# Altium schematic symbol library Symbols.SchLib: 177 symbols
Pins are listed as number, name and electrical type; pins without a type are passive.

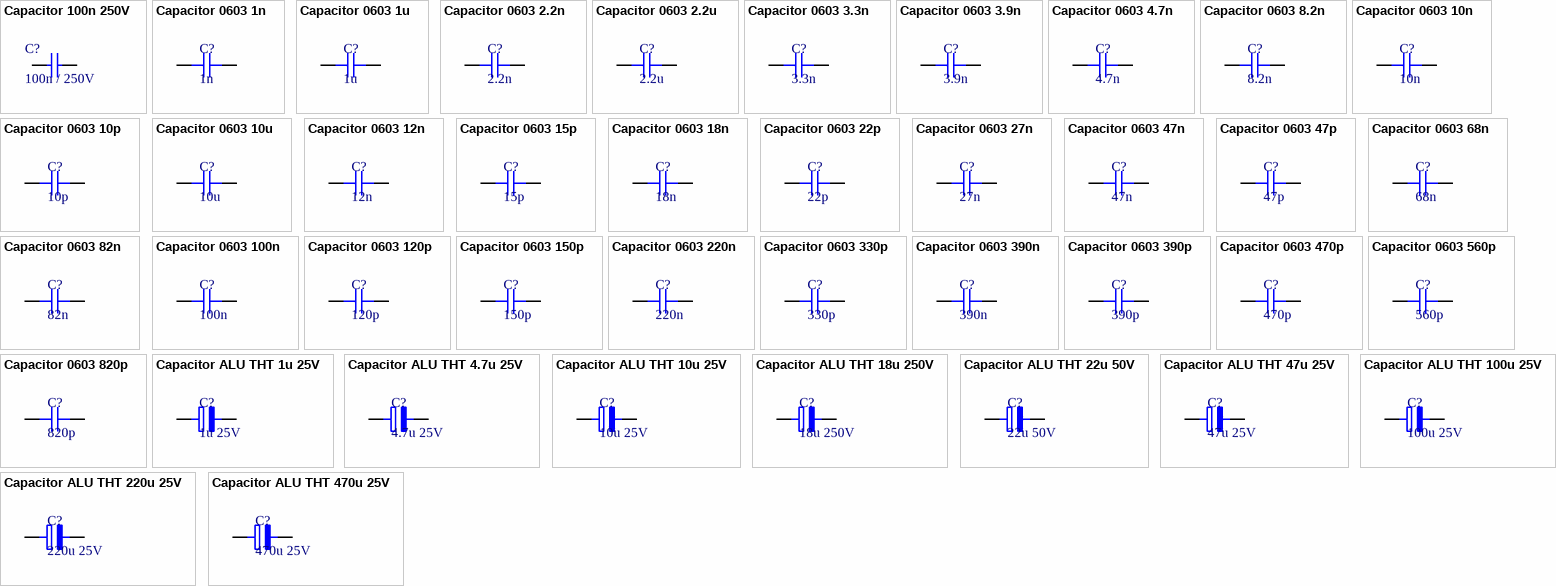
[diagram p0: symbols Capacitor 100n 250V to Capacitor ALU THT 470u 25V]

## Capacitor 100n 250V
designator C?, comment 100n / 250V
footprint Capacitor 1206
pins: 1, 2

## Capacitor 0603 1n
designator C?, comment 1n
footprint Capacitor 0603
pins: 1, 2

## Capacitor 0603 1u
designator C?, comment 1u
footprint Capacitor 0603
pins: 1, 2

## Capacitor 0603 2.2n
designator C?, comment 2.2n
footprint Capacitor 0603
pins: 1, 2

## Capacitor 0603 2.2u
designator C?, comment 2.2u
footprint Capacitor 0603
pins: 1, 2

## Capacitor 0603 3.3n
designator C?, comment 3.3n
footprint Capacitor 0603
pins: 1, 2

## Capacitor 0603 3.9n
designator C?, comment 3.9n
footprint Capacitor 0603
pins: 1, 2

## Capacitor 0603 4.7n
designator C?, comment 4.7n
footprint Capacitor 0603
pins: 1, 2

## Capacitor 0603 8.2n
designator C?, comment 8.2n
footprint Capacitor 0603
pins: 1, 2

## Capacitor 0603 10n
designator C?, comment 10n
footprint Capacitor 0603
pins: 1, 2

## Capacitor 0603 10p
designator C?, comment 10p
footprint Capacitor 0603
pins: 1, 2

## Capacitor 0603 10u
designator C?, comment 10u
footprint Capacitor 0603
pins: 1, 2

## Capacitor 0603 12n
designator C?, comment 12n
footprint Capacitor 0603
pins: 1, 2

## Capacitor 0603 15p
designator C?, comment 15p
footprint Capacitor 0603
pins: 1, 2

## Capacitor 0603 18n
designator C?, comment 18n
footprint Capacitor 0603
pins: 1, 2

## Capacitor 0603 22p
designator C?, comment 22p
footprint Capacitor 0603
pins: 1, 2

## Capacitor 0603 27n
designator C?, comment 27n
footprint Capacitor 0603
pins: 1, 2

## Capacitor 0603 47n
designator C?, comment 47n
footprint Capacitor 0603
pins: 1, 2

## Capacitor 0603 47p
designator C?, comment 47p
footprint Capacitor 0603
pins: 1, 2

## Capacitor 0603 68n
designator C?, comment 68n
footprint Capacitor 0603
pins: 1, 2

## Capacitor 0603 82n
designator C?, comment 82n
footprint Capacitor 0603
pins: 1, 2

## Capacitor 0603 100n
designator C?, comment 100n
footprint Capacitor 0603
pins: 1, 2

## Capacitor 0603 120p
designator C?, comment 120p
footprint Capacitor 0603
pins: 1, 2

## Capacitor 0603 150p
designator C?, comment 150p
footprint Capacitor 0603
pins: 1, 2

## Capacitor 0603 220n
designator C?, comment 220n
footprint Capacitor 0603
pins: 1, 2

## Capacitor 0603 330p
designator C?, comment 330p
footprint Capacitor 0603
pins: 1, 2

## Capacitor 0603 390n
designator C?, comment 390n
footprint Capacitor 0603
pins: 1, 2

## Capacitor 0603 390p
designator C?, comment 390p
footprint Capacitor 0603
pins: 1, 2

## Capacitor 0603 470p
designator C?, comment 470p
footprint Capacitor 0603
pins: 1, 2

## Capacitor 0603 560p
designator C?, comment 560p
footprint Capacitor 0603
pins: 1, 2

## Capacitor 0603 820p
designator C?, comment 820p
footprint Capacitor 0603
pins: 1, 2

## Capacitor ALU THT 1u 25V
designator C?, comment 1u 25V
footprint CAPACITOR THT 5X11MM
pins: 1, 2

## Capacitor ALU THT 4.7u 25V
designator C?, comment 4.7u 25V
footprint CAPACITOR THT 5X11MM
pins: 1, 2

## Capacitor ALU THT 10u 25V
designator C?, comment 10u 25V
footprint CAPACITOR THT 5X11MM
pins: 1, 2

## Capacitor ALU THT 18u 250V
designator C?, comment 18u 250V
footprint CAPACITOR 10x16MM LS=5MM HORIZONTAL
pins: 1, 2

## Capacitor ALU THT 22u 50V
designator C?, comment 22u 50V
footprint CAPACITOR THT 5X11MM
pins: 1, 2

## Capacitor ALU THT 47u 25V
designator C?, comment 47u 25V
footprint CAPACITOR THT 5X11MM
pins: 1, 2

## Capacitor ALU THT 100u 25V
designator C?, comment 100u 25V
footprint CAPACITOR THT 6.3X11MM
pins: 1, 2

## Capacitor ALU THT 220u 25V
designator C?, comment 220u 25V
footprint CAPACITOR THT 6.3X11MM
pins: 1, 2

## Capacitor ALU THT 470u 25V
designator C?, comment 470u 25V
footprint CAPACITOR THT 8X14MM
pins: 1, 2

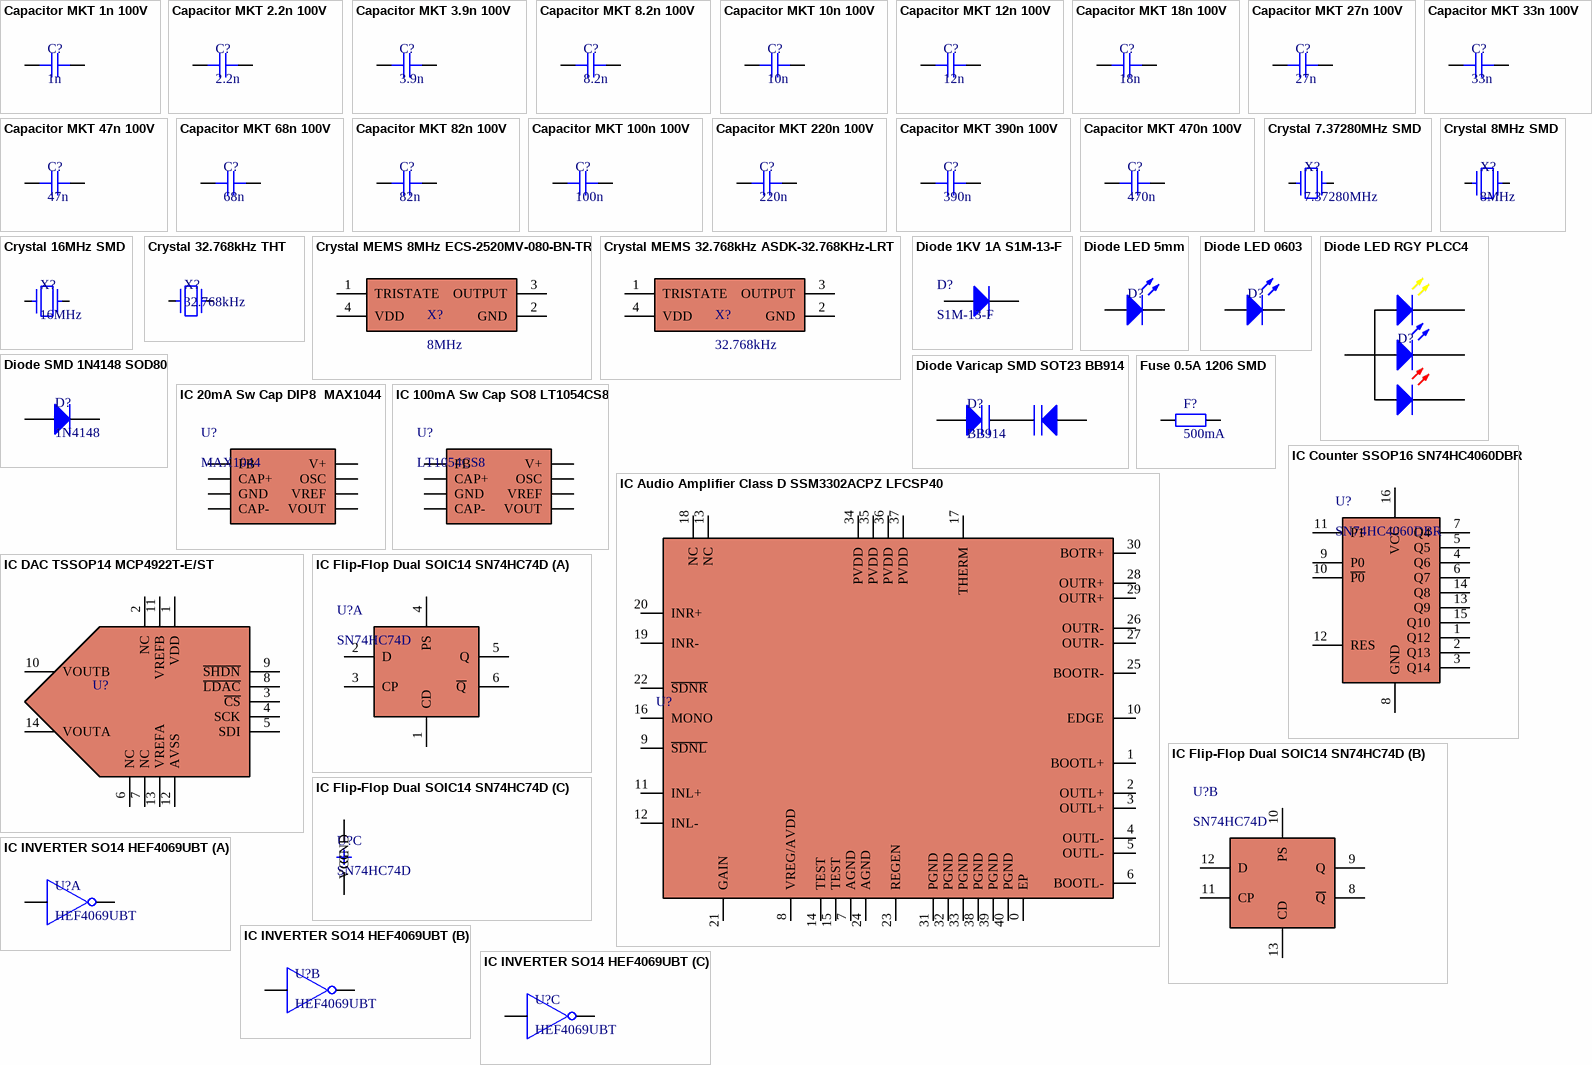
[diagram p1: symbols Capacitor MKT 1n 100V to IC INVERTER SO14 HEF4069UBT]

## Capacitor MKT 1n 100V
designator C?, comment 1n
footprint CAPACITOR 7.2X2.5MM LS=5MM MKT
pins: 1, 2

## Capacitor MKT 2.2n 100V
designator C?, comment 2.2n
footprint CAPACITOR 7.2X2.5MM LS=5MM MKT
pins: 1, 2

## Capacitor MKT 3.9n 100V
designator C?, comment 3.9n
footprint CAPACITOR 7.2X2.5MM LS=5MM MKT
pins: 1, 2

## Capacitor MKT 8.2n 100V
designator C?, comment 8.2n
footprint CAPACITOR 7.2X2.5MM LS=5MM MKT
pins: 1, 2

## Capacitor MKT 10n 100V
designator C?, comment 10n
footprint CAPACITOR 7.2X2.5MM LS=5MM MKT
pins: 1, 2

## Capacitor MKT 12n 100V
designator C?, comment 12n
footprint CAPACITOR 7.2X2.5MM LS=5MM MKT
pins: 1, 2

## Capacitor MKT 18n 100V
designator C?, comment 18n
footprint CAPACITOR 7.2X2.5MM LS=5MM MKT
pins: 1, 2

## Capacitor MKT 27n 100V
designator C?, comment 27n
footprint CAPACITOR 7.2X2.5MM LS=5MM MKT
pins: 1, 2

## Capacitor MKT 33n 100V
designator C?, comment 33n
footprint CAPACITOR 7.2X2.5MM LS=5MM MKT
pins: 1, 2

## Capacitor MKT 47n 100V
designator C?, comment 47n
footprint CAPACITOR 7.2X2.5MM LS=5MM MKT
pins: 1, 2

## Capacitor MKT 68n 100V
designator C?, comment 68n
footprint CAPACITOR 7.2X2.5MM LS=5MM MKT
pins: 1, 2

## Capacitor MKT 82n 100V
designator C?, comment 82n
footprint CAPACITOR 7.2X2.5MM LS=5MM MKT
pins: 1, 2

## Capacitor MKT 100n 100V
designator C?, comment 100n
footprint CAPACITOR 7.2X2.5MM LS=5MM MKT
pins: 1, 2

## Capacitor MKT 220n 100V
designator C?, comment 220n
footprint CAPACITOR 7.2X4.4MM LS=5MM MKT
pins: 1, 2

## Capacitor MKT 390n 100V
designator C?, comment 390n
footprint CAPACITOR 7.2X4.4MM LS=5MM MKT
pins: 1, 2

## Capacitor MKT 470n 100V
designator C?, comment 470n
footprint CAPACITOR 7.2X4.4MM LS=5MM MKT
pins: 1, 2

## Crystal 7.37280MHz SMD
designator X?, comment 7.37280MHz
footprint CRYSTAL 8MHZ SMD
pins: 1, 2

## Crystal 8MHz SMD
designator X?, comment 8MHz
footprint CRYSTAL 8MHZ SMD
pins: 1, 2

## Crystal 16MHz SMD
designator X?, comment 16MHz
footprint CRYSTAL 8MHZ SMD
pins: 1, 2

## Crystal 32.768kHz THT
designator X?, comment 32.768kHz
footprint CRYSTAL 32.768kHz THT
pins: 1, 2

## Crystal MEMS 8MHz ECS-2520MV-080-BN-TR
designator X?, comment 8MHz
footprint CRYSTAL MEMS 2.5x2mm
pins: 1 TRISTATE, 2 GND, 3 OUTPUT, 4 VDD

## Crystal MEMS 32.768kHz ASDK-32.768KHz-LRT
designator X?, comment 32.768kHz
footprint CRYSTAL MEMS 2.5x2mm
pins: 1 TRISTATE, 2 GND, 3 OUTPUT, 4 VDD

## Diode 1KV 1A S1M-13-F
designator D?, comment S1M-13-F
footprint DO-214
pins: 1, 2

## Diode LED 5mm
designator D?
footprint LED 5MM THT
pins: 1, 2

## Diode LED 0603
designator D?
footprint LED 0603 (Footprint not found)
pins: 1, 2

## Diode LED RGY PLCC4
designator D?, comment CLMVC-FKA-CLBDGL7LBB79353  (value not drawn)
footprint PLCC4
pins: 1, 2, 3, 4

## Diode SMD 1N4148 SOD80
designator D?, comment 1N4148
footprint SOD80
pins: 1, 2

## Diode Varicap SMD SOT23 BB914
designator D?, comment BB914
footprint SOT23-3
pins: 1, 2, 3

## Fuse 0.5A 1206 SMD
designator F?, comment 500mA
footprint Fuse SMD 1206
pins: 1, 2

## IC 20mA Sw Cap DIP8  MAX1044
designator U?, comment MAX1044
footprint DIP8
pins: 1 FB, 2 CAP+, 3 GND, 4 CAP-, 5 VOUT, 6 VREF, 7 OSC, 8 V+

## IC 100mA Sw Cap SO8 LT1054CS8
designator U?, comment LT1054CS8
footprint SO8
pins: 1 FB, 2 CAP+, 3 GND, 4 CAP-, 5 VOUT, 6 VREF, 7 OSC, 8 V+

## IC Audio Amplifier Class D SSM3302ACPZ LFCSP40
designator U?, comment SSM3302ACPZ  (value not drawn)
footprint LFCSP40
pins: 0 EP, 1 BOOTL+, 2 OUTL+, 3 OUTL+, 4 OUTL-, 5 OUTL-, 6 BOOTL-, 7 AGND, 8 VREG/AVDD, 9 ~{SDNL}, 10 EDGE, 11 INL+, 12 INL-, 13 NC, 14 TEST, 15 TEST, 16 MONO, 17 THERM, 18 NC, 19 INR-, 20 INR+, 21 GAIN, 22 ~{SDNR}, 23 REGEN, 24 AGND, 25 BOOTR-, 26 OUTR-, 27 OUTR-, 28 OUTR+, 29 OUTR+, 30 BOTR+, 31 PGND, 32 PGND, 33 PGND, 34 PVDD, 35 PVDD, 36 PVDD, 37 PVDD, 38 PGND, 39 PGND, 40 PGND

## IC Counter SSOP16 SN74HC4060DBR
designator U?, comment SN74HC4060DBR
footprint SSOP16
pins: 1 Q12, 2 Q13, 3 Q14, 4 Q6, 5 Q5, 6 Q7, 7 Q4, 8 GND, 9 P0, 10 ~{P0}, 11 P1, 12 RES, 13 Q9, 14 Q8, 15 Q10, 16 VCC

## IC DAC TSSOP14 MCP4922T-E/ST
designator U?, comment MCP4922T-E/ST  (value not drawn)
footprint TSSOP14
pins: 1 VDD, 2 NC, 3 ~{CS}, 4 SCK, 5 SDI, 6 NC, 7 NC, 8 ~{LDAC}, 9 ~{SHDN}, 10 VOUTB, 11 VREFB, 12 AVSS, 13 VREFA, 14 VOUTA

## IC Flip-Flop Dual SOIC14 SN74HC74D
designator U?, comment SN74HC74D
footprint SOIC14
part A pins: 1 CD, 2 D, 3 CP, 4 PS, 5 Q, 6 ~{Q} 
part B pins: 8 ~{Q}, 9 Q, 10 PS, 11 CP, 12 D, 13 CD
part C pins: 7 GND, 14 VCC

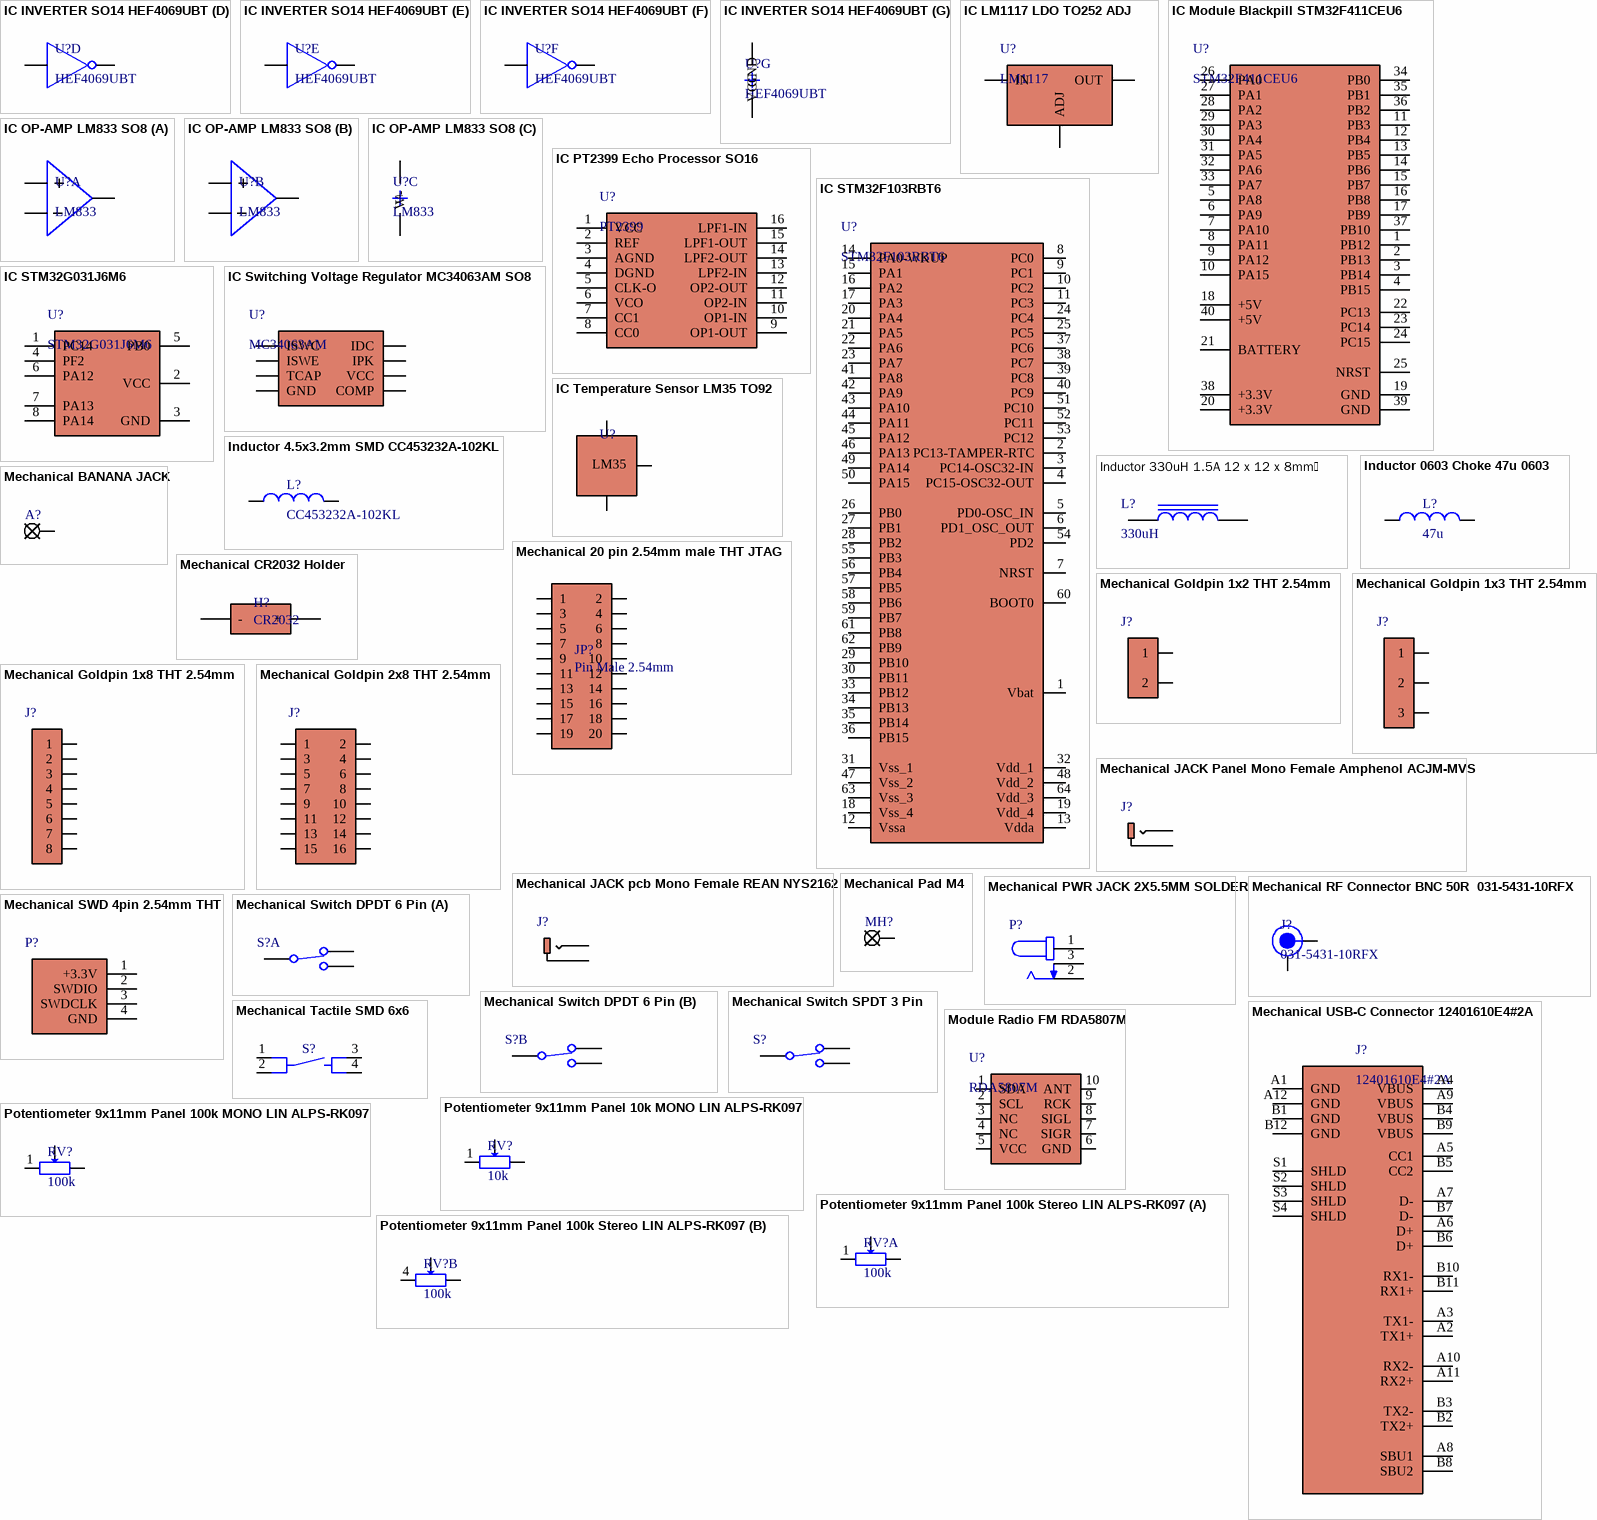
[diagram p2: symbols IC INVERTER SO14 HEF4069UBT to Potentiometer 9x11mm Panel 100k Stereo LIN ALPS-RK097]

## IC INVERTER SO14 HEF4069UBT
designator U?, comment HEF4069UBT
ComponentLink1Description: Datasheet; ComponentLink1URL: https://pl.mouser.com/datasheet/2/389/cd00000474-1795554.pdf
footprint SO14
part A pins: 1 1A, 2 1Y
part B pins: 3 2A, 4 2Y
part C pins: 5 3A, 6 3Y
part D pins: 8 5Y, 9 4A
part E pins: 10 5Y, 11 5A
part F pins: 12 6Y, 13 6A
part G pins: 7 GND, 14 VCC

## IC LM1117 LDO TO252 ADJ
designator U?, comment LM1117
footprint TO252
pins: 1 ADJ, 2 OUT, 3 IN

## IC Module Blackpill STM32F411CEU6
designator U?, comment STM32F411CEU6
footprint BLACKPILL
pins: 1 PB12, 2 PB13, 3 PB14, 4 PB15, 5 PA8, 6 PA9, 7 PA10, 8 PA11, 9 PA12, 10 PA15, 11 PB3, 12 PB4, 13 PB5, 14 PB6, 15 PB7, 16 PB8, 17 PB9, 18 +5V, 19 GND, 20 +3.3V, 21 BATTERY, 22 PC13, 23 PC14, 24 PC15, 25 NRST, 26 PA0, 27 PA1, 28 PA2, 29 PA3, 30 PA4, 31 PA5, 32 PA6, 33 PA7, 34 PB0, 35 PB1, 36 PB2, 37 PB10, 38 +3.3V, 39 GND, 40 +5V

## IC OP-AMP LM833 SO8
designator U?, comment LM833
ComponentLink1Description: Datasheet; ComponentLink1URL: https://pl.mouser.com/datasheet/2/389/cd00000474-1795554.pdf
footprint SO8
part A pins: 1 OUT, 2 IN-, 3 IN+
part B pins: 5 IN+, 6 IN-, 7 OUT
part C pins: 4 V-, 8 V+

## IC PT2399 Echo Processor SO16
designator U?, comment PT2399
footprint SO16
pins: 1 VCC, 2 REF, 3 AGND, 4 DGND, 5 CLK-O, 6 VCO, 7 CC1, 8 CC0, 9 OP1-OUT, 10 OP1-IN, 11 OP2-IN, 12 OP2-OUT, 13 LPF2-IN, 14 LPF2-OUT, 15 LPF1-OUT, 16 LPF1-IN

## IC STM32F103RBT6
designator U?, comment STM32F103RBT6
footprint LQFP64
pins: 1 Vbat, 2 PC13-TAMPER-RTC, 3 PC14-OSC32-IN, 4 PC15-OSC32-OUT, 5 PD0-OSC_IN, 6 PD1_OSC_OUT, 7 NRST, 8 PC0, 9 PC1, 10 PC2, 11 PC3, 12 Vssa, 13 Vdda, 14 PA0-WKUP, 15 PA1, 16 PA2, 17 PA3, 18 Vss_4, 19 Vdd_4, 20 PA4, 21 PA5, 22 PA6, 23 PA7, 24 PC4, 25 PC5, 26 PB0, 27 PB1, 28 PB2, 29 PB10, 30 PB11, 31 Vss_1, 32 Vdd_1, 33 PB12, 34 PB13, 35 PB14, 36 PB15, 37 PC6, 38 PC7, 39 PC8, 40 PC9, 41 PA8, 42 PA9, 43 PA10, 44 PA11, 45 PA12, 46 PA13, 47 Vss_2, 48 Vdd_2, 49 PA14, 50 PA15, 51 PC10, 52 PC11, 53 PC12, 54 PD2, 55 PB3, 56 PB4, 57 PB5, 58 PB6, 59 PB7, 60 BOOT0, 61 PB8, 62 PB9, 63 Vss_3, 64 Vdd_3

## IC STM32G031J6M6
designator U?, comment STM32G031J6M6
footprint SO8N
pins: 1 PC14, 2 VCC, 3 GND, 4 PF2, 5 PB0, 6 PA12, 7 PA13, 8 PA14

## IC Switching Voltage Regulator MC34063AM SO8
designator U?, comment MC34063AM
footprint SO8
pins: 1 ISWC, 2 ISWE, 3 TCAP, 4 GND, 5 COMP, 6 VCC, 7 IPK, 8 IDC

## IC Temperature Sensor LM35 TO92
designator U?, comment LM35  (value not drawn)
footprint TO92
pins: 1 GND, 2 OUT, 3 VCC

## Inductor 4.5x3.2mm SMD CC453232A-102KL
designator L?, comment CC453232A-102KL
footprint Inductor 4.5x3.2 mm
pins: 1, 2

## Inductor 330uH 1.5A 12 x 12 x 8mm﻿
designator L?, comment 330uH
footprint INDUCTOR 12X12X8MM
pins: 1, 2

## Inductor 0603 Choke 47u 0603
designator L?, comment 47u
footprint Inductor 0603
pins: 1, 2

## Mechanical 20 pin 2.54mm male THT JTAG
designator JP?, comment Pin Male 2.54mm
CONN HEADER VERT 20POS 2.54MM; ComponentLink1URL: https://s3.amazonaws.com/catalogspreads-pdf/PAGE122%20.100%20SBH11%20SERIES%20MALE%20BOX%20HDR%20ST%20RA%20SMT.pdf?src-supplier=Digi-Key; ComponentLink1Description: https://s3.amazonaws.com/catalogspreads-pdf/PAGE122%20.100%20SBH11%20SERIES%20MALE%20BOX%20HDR%20ST%20RA%20SMT.pdf?src-supplier=Digi-Key
footprint 20 pin 2.54mm male THT JTAG
pins: 1, 2, 3, 4, 5, 6, 7, 8, 9, 10, 11, 12, 13, 14, 15, 16, 17, 18, 19, 20

## Mechanical BANANA JACK
designator A?
footprint MECHANICAL Banana Jack 108-0913-001
pins: 1

## Mechanical CR2032 Holder
designator H?, comment CR2032
ComponentLink1URL: http://www.memoryprotectiondevices.com/datasheets/BU2032SM-FH-GTR-datasheet.pdf?src-supplier=Digi-Key; ComponentLink1Description: http://www.memoryprotectiondevices.com/datasheets/BU2032SM-FH-GTR-datasheet.pdf?src-supplier=Digi-Key
footprint CR2032 HOLDER
pins: 1 +, 2 -

## Mechanical Goldpin 1x2 THT 2.54mm
designator J?
footprint GOLDPIN 1X2
pins: 1, 2

## Mechanical Goldpin 1x3 THT 2.54mm
designator J?
footprint GOLDPIN 1X3
pins: 1, 2, 3

## Mechanical Goldpin 1x8 THT 2.54mm
designator J?
footprint GOLDPIN 1X8
pins: 1, 2, 3, 4, 5, 6, 7, 8

## Mechanical Goldpin 2x8 THT 2.54mm
designator J?
footprint GOLDPIN 2X8
pins: 1, 2, 3, 4, 5, 6, 7, 8, 9, 10, 11, 12, 13, 14, 15, 16

## Mechanical JACK Panel Mono Female Amphenol ACJM-MVS
designator J?, comment ACJM-MVS  (value not drawn)
footprint MECHANICAL JACK MONO ACJM-MVS
pins: 1, 2

## Mechanical JACK pcb Mono Female REAN NYS2162
designator J?, comment NYS2162  (value not drawn)
footprint MECHANICAL JACK MONO NYS2162
pins: 1, 2

## Mechanical Pad M4
designator MH?
footprint PAD M4
pins: 1

## Mechanical PWR JACK 2X5.5MM SOLDER
designator P?  (value not drawn)
Conn Power F 2 POS Solder RA Thru-Hole 3 Terminal 1 Port; Manufacturer: CUI; Manufacturer Part Number: PJ-002A; Gender: Male; Shielding: Unshielded; Current Rating: 2.5A; Connector Type: Jack; Voltage Rating: 24V; Insulation Resistance: 50MR; Number of Conductors: 2; Supplier 1: Digi-Key; Stock 1: 35595; Pricing 1: 1=0.6, 10=0.558, 25=0.5024, 50=0.4464, 100=0.4278, 250=0.3906, 500=0.372, 1000=0.3069, 2500=0.279 (USD); Mount: Through Hole; Color: Black; Contact Material: Copper Alloy,Copper; Contact Plating: Tin,Nickel; Housing Color: Black; Housing Material: Thermoplastic; Min Operating Temperature: -25°C; Max Operating Temperature: 85°C; Termination: Through Hole; Packaging: Bulk; Package Quantity: 500; Contact Gender: Male; Orientation: Horizontal; Diameter: 2.1mm; Lead Free: Lead Free; Flammability Rating: UL94 V-0; Supplier Part Number 1: CP-002A-ND
footprint Mechanical CUI_PJ-002A
pins: 1, 2, 3

## Mechanical RF Connector BNC 50R  031-5431-10RFX
designator J?, comment 031-5431-10RFX
RF Connectors / Coaxial Connectors PC R/A BLHD JCK Ni WHITE HOUSING; ComponentLink1Description: Datasheet; ComponentLink1URL: https://pl.mouser.com/datasheet/2/18/1/C31_5431_10rfx-2452641.pdf; Manufacturer Part Number: 031-5431-10RFX
footprint 031-5431-10RFX
pins: 1, 2

## Mechanical SWD 4pin 2.54mm THT
designator P?
Headers & Wire Housings 2X04 POS VERT TIN
footprint MECHANICAL SWD 4PIN THT
pins: 1 +3.3V, 2 SWDIO, 3 SWDCLK, 4 GND

## Mechanical Switch DPDT 6 Pin
designator S?
footprint MECHANICAL DPDT SWITCH
part A pins: 1, 2, 3
part B pins: 4, 5, 6

## Mechanical Switch SPDT 3 Pin
designator S?
footprint MECHANICAL SPDT SWITCH
pins: 1, 2, 3

## Mechanical Tactile SMD 6x6
designator S?  (value not drawn)
SWITCH TACTILE SPST-NO 0.05A 24V; Manufacturer: Omron; Manufacturer Part Number: B3FS-1012P; Mechanical Life: 300000Cycles; Throw Configuration: SPST; Contact Resistance: 100mR; Operating Force: 1.47N; Current Rating: 50mA; Illumination Type: Non-Illuminated; Switch Travel: 0.25mm; Switch Function: Off-Mom; Actuator Type: Standard; Actuator Length: 1.7mm; Supplier 1: Digi-Key; Stock 1: 222198; Pricing 1: 1=0.71, 10=0.687, 25=0.648, 50=0.5702, 100=0.5183, 250=0.4924, 500=0.47944 (USD); Mount: Surface Mount; Case/Package: SMD/SMT; Weight: 0.2g; Contact Plating: Silver; Min Operating Temperature: -20°C; Max Operating Temperature: 70°C; Voltage Rating (DC): 24V; Packaging: Tape and Reel; Max Voltage Rating (DC): 24V; Package Quantity: 1; Max Current Rating: 50mA; Termination: Gull Wing; Electrical Life: 300000Cycles; Orientation: Straight; Length: 6.3mm; Depth: 8mm; Radiation Hardening: No; ComponentLink1URL: https://omronfs.omron.com/en_US/ecb/products/pdf/en-b3fs.pdf?src-supplier=Digi-Key; ComponentLink1Description: https://omronfs.omron.com/en_US/ecb/products/pdf/en-b3fs.pdf?src-supplier=Digi-Key; ComponentLink2URL: http://omronfs.omron.com/en_US/ecb/products/pdf/en-b3fs.pdf?src-supplier=Digi-Key; ComponentLink2Description: http://omronfs.omron.com/en_US/ecb/products/pdf/en-b3fs.pdf?src-supplier=Digi-Key; Supplier Part Number 1: SW1237DKR-ND
footprint Mechanical Tacitile 6x6
pins: 1, 2, 3, 4

## Mechanical USB-C Connector 12401610E4#2A
designator J?, comment 12401610E4#2A
footprint MECHANICAL USB-C 12401610E4#2A
pins: A1 GND, A2 TX1+, A3 TX1-, A4 VBUS, A5 CC1, A6 D+, A7 D-, A8 SBU1, A9 VBUS, A10 RX2-, A11 RX2+, A12 GND, B1 GND, B2 TX2+, B3 TX2-, B4 VBUS, B5 CC2, B6 D+, B7 D-, B8 SBU2, B9 VBUS, B10 RX1-, B11 RX1+, B12 GND, S1 SHLD, S2 SHLD, S3 SHLD, S4 SHLD

## Module Radio FM RDA5807M
designator U?, comment RDA5807M
footprint RDA5807M
pins: 1 SDA, 2 SCL, 3 NC, 4 NC, 5 VCC, 6 GND, 7 SIGR, 8 SIGL, 9 RCK, 10 ANT

## Potentiometer 9x11mm Panel 10k MONO LIN ALPS-RK097
designator RV?, comment 10k
footprint POTENTIOMETER 9x11mm ALPS-RK097 THT
pins: 1, 2, 3

## Potentiometer 9x11mm Panel 100k MONO LIN ALPS-RK097
designator RV?, comment 100k
footprint POTENTIOMETER 9x11mm ALPS-RK097 THT
pins: 1, 2, 3

## Potentiometer 9x11mm Panel 100k Stereo LIN ALPS-RK097
designator RV?, comment 100k
footprint POTENTIOMETER 9x11mm ALPS-RK097 Dual THT
part A pins: 1, 2, 3
part B pins: 4, 5, 6

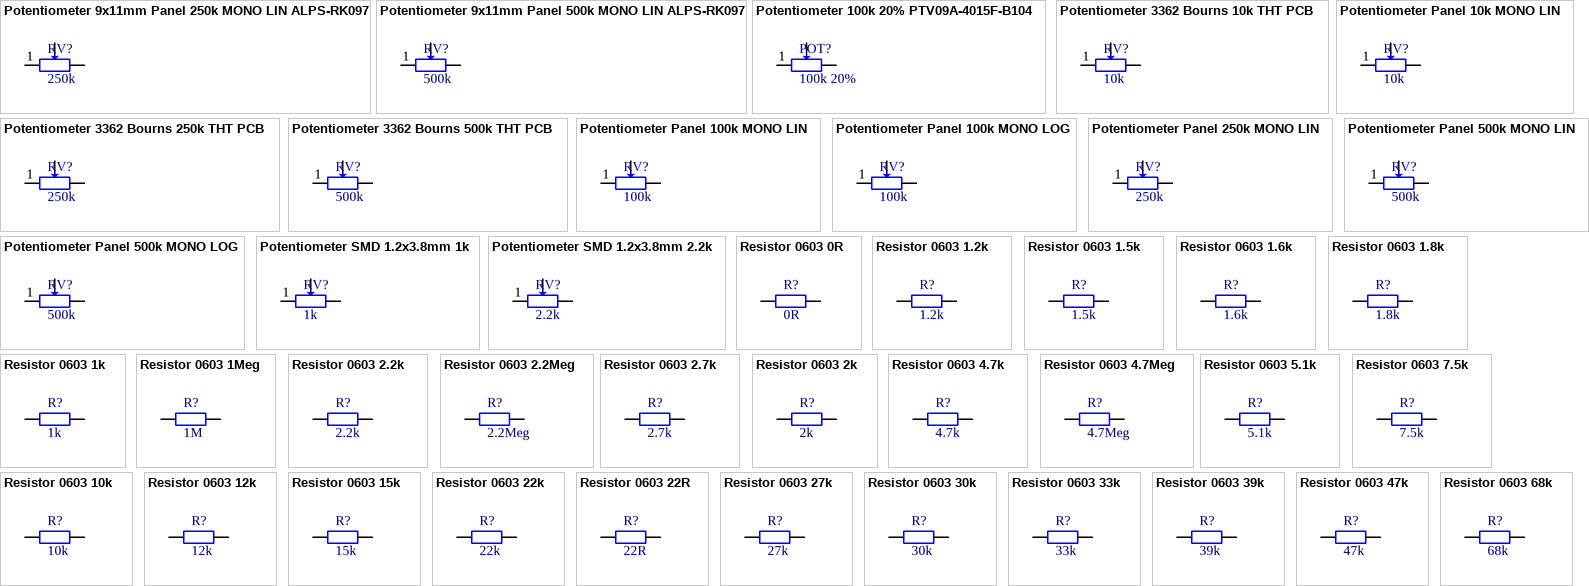
[diagram p3: symbols Potentiometer 9x11mm Panel 250k MONO LIN ALPS-RK097 to Resistor 0603 68k]

## Potentiometer 9x11mm Panel 250k MONO LIN ALPS-RK097
designator RV?, comment 250k
footprint POTENTIOMETER 9x11mm ALPS-RK097 THT
pins: 1, 2, 3

## Potentiometer 9x11mm Panel 500k MONO LIN ALPS-RK097
designator RV?, comment 500k
footprint POTENTIOMETER 9x11mm ALPS-RK097 THT
pins: 1, 2, 3

## Potentiometer 100k 20% PTV09A-4015F-B104
designator POT?, comment 100k 20%
Potentiometers 100K 20% 9MM CARBON POT; Manufacturer Part Number: PTV09A-4015F-B104; ComponentLink1Description: Datasheet; ComponentLink1URL: https://pl.mouser.com/datasheet/2/54/ptv09-777818.pdf
footprint PTV09A
pins: 1, 2, 3

## Potentiometer 3362 Bourns 10k THT PCB
designator RV?, comment 10k
footprint POTENTIOMETER 3362P
pins: 1, 2, 3

## Potentiometer 3362 Bourns 250k THT PCB
designator RV?, comment 250k
footprint POTENTIOMETER 3362P
pins: 1, 2, 3

## Potentiometer 3362 Bourns 500k THT PCB
designator RV?, comment 500k
footprint POTENTIOMETER 3362P
pins: 1, 2, 3

## Potentiometer Panel 10k MONO LIN
designator RV?, comment 10k
footprint POT - PANEL - MONO
footprint POT - PANEL - MONO -  PINS
pins: 1, 2, 3

## Potentiometer Panel 100k MONO LIN
designator RV?, comment 100k
footprint POT - PANEL - MONO
footprint POT - PANEL - MONO -  PINS
pins: 1, 2, 3

## Potentiometer Panel 100k MONO LOG
designator RV?, comment 100k
footprint POT - PANEL - MONO
footprint POT - PANEL - MONO -  PINS
pins: 1, 2, 3

## Potentiometer Panel 250k MONO LIN
designator RV?, comment 250k
footprint POT - PANEL - MONO
footprint POT - PANEL - MONO -  PINS
pins: 1, 2, 3

## Potentiometer Panel 500k MONO LIN
designator RV?, comment 500k
footprint POT - PANEL - MONO
footprint POT - PANEL - MONO -  PINS
pins: 1, 2, 3

## Potentiometer Panel 500k MONO LOG
designator RV?, comment 500k
footprint POT - PANEL - MONO
footprint POT - PANEL - MONO -  PINS
pins: 1, 2, 3

## Potentiometer SMD 1.2x3.8mm 1k
designator RV?, comment 1k
footprint POTENTIOMETER 1.2X3.8MM
pins: 1, 2, 3

## Potentiometer SMD 1.2x3.8mm 2.2k
designator RV?, comment 2.2k
footprint POTENTIOMETER 1.2X3.8MM
pins: 1, 2, 3

## Resistor 0603 0R
designator R?, comment 0R
footprint Resistor 0603
pins: 1, 2

## Resistor 0603 1.2k
designator R?, comment 1.2k
footprint Resistor 0603
pins: 1, 2

## Resistor 0603 1.5k
designator R?, comment 1.5k
footprint Resistor 0603
pins: 1, 2

## Resistor 0603 1.6k
designator R?, comment 1.6k
footprint Resistor 0603
pins: 1, 2

## Resistor 0603 1.8k
designator R?, comment 1.8k
footprint Resistor 0603
pins: 1, 2

## Resistor 0603 1k
designator R?, comment 1k
footprint Resistor 0603
pins: 1, 2

## Resistor 0603 1Meg
designator R?, comment 1M
footprint Resistor 0603
pins: 1, 2

## Resistor 0603 2.2k
designator R?, comment 2.2k
footprint Resistor 0603
pins: 1, 2

## Resistor 0603 2.2Meg
designator R?, comment 2.2Meg
footprint Resistor 0603
pins: 1, 2

## Resistor 0603 2.7k
designator R?, comment 2.7k
footprint Resistor 0603
pins: 1, 2

## Resistor 0603 2k
designator R?, comment 2k
footprint Resistor 0603
pins: 1, 2

## Resistor 0603 4.7k
designator R?, comment 4.7k
footprint Resistor 0603
pins: 1, 2

## Resistor 0603 4.7Meg
designator R?, comment 4.7Meg
footprint Resistor 0603
pins: 1, 2

## Resistor 0603 5.1k
designator R?, comment 5.1k
footprint Resistor 0603
pins: 1, 2

## Resistor 0603 7.5k
designator R?, comment 7.5k
footprint Resistor 0603
pins: 1, 2

## Resistor 0603 10k
designator R?, comment 10k
footprint Resistor 0603
pins: 1, 2

## Resistor 0603 12k
designator R?, comment 12k
footprint Resistor 0603
pins: 1, 2

## Resistor 0603 15k
designator R?, comment 15k
footprint Resistor 0603
pins: 1, 2

## Resistor 0603 22k
designator R?, comment 22k
footprint Resistor 0603
pins: 1, 2

## Resistor 0603 22R
designator R?, comment 22R
footprint Resistor 0603
pins: 1, 2

## Resistor 0603 27k
designator R?, comment 27k
footprint Resistor 0603
pins: 1, 2

## Resistor 0603 30k
designator R?, comment 30k
footprint Resistor 0603
pins: 1, 2

## Resistor 0603 33k
designator R?, comment 33k
footprint Resistor 0603
pins: 1, 2

## Resistor 0603 39k
designator R?, comment 39k
footprint Resistor 0603
pins: 1, 2

## Resistor 0603 47k
designator R?, comment 47k
footprint Resistor 0603
pins: 1, 2

## Resistor 0603 68k
designator R?, comment 68k
footprint Resistor 0603
pins: 1, 2

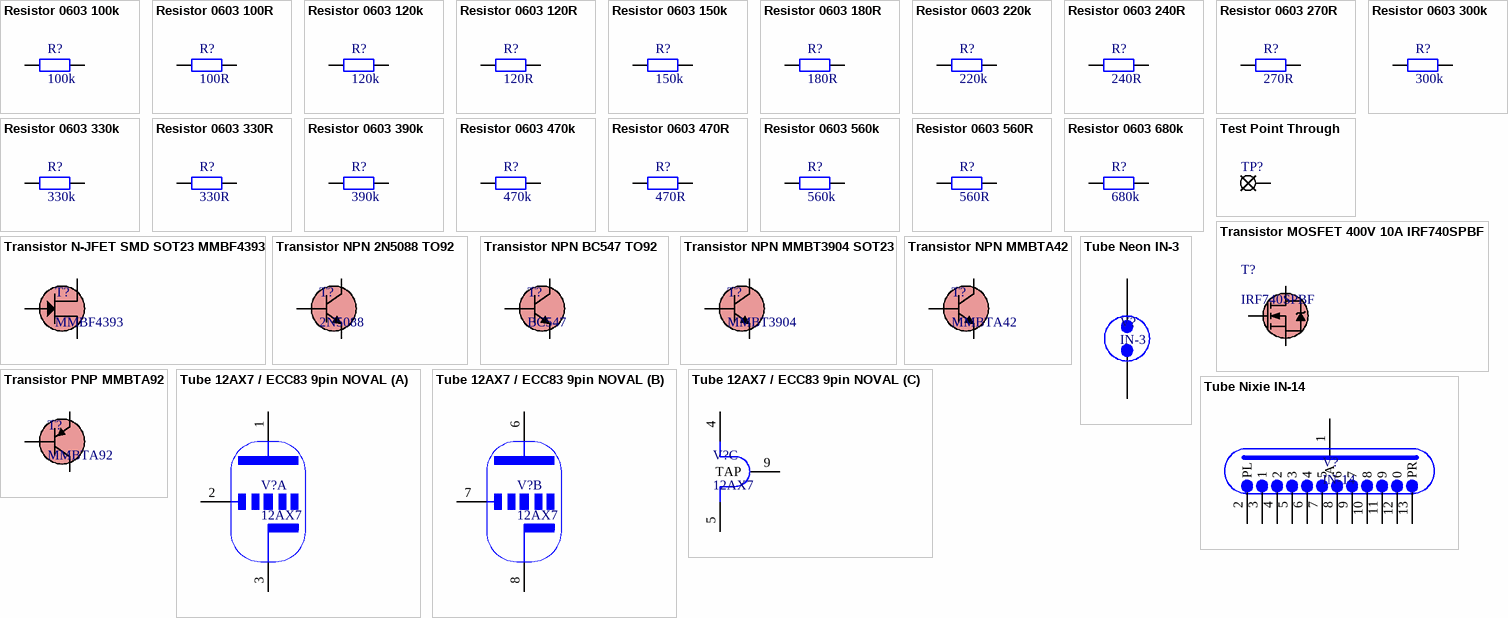
[diagram p4: symbols Resistor 0603 100k to Tube Nixie IN-14]

## Resistor 0603 100k
designator R?, comment 100k
footprint Resistor 0603
pins: 1, 2

## Resistor 0603 100R
designator R?, comment 100R
footprint Resistor 0603
pins: 1, 2

## Resistor 0603 120k
designator R?, comment 120k
footprint Resistor 0603
pins: 1, 2

## Resistor 0603 120R
designator R?, comment 120R
footprint Resistor 0603
pins: 1, 2

## Resistor 0603 150k
designator R?, comment 150k
footprint Resistor 0603
pins: 1, 2

## Resistor 0603 180R
designator R?, comment 180R
footprint Resistor 0603
pins: 1, 2

## Resistor 0603 220k
designator R?, comment 220k
footprint Resistor 0603
pins: 1, 2

## Resistor 0603 240R
designator R?, comment 240R
footprint Resistor 0603
pins: 1, 2

## Resistor 0603 270R
designator R?, comment 270R
footprint Resistor 0603
pins: 1, 2

## Resistor 0603 300k
designator R?, comment 300k
footprint Resistor 0603
pins: 1, 2

## Resistor 0603 330k
designator R?, comment 330k
footprint Resistor 0603
pins: 1, 2

## Resistor 0603 330R
designator R?, comment 330R
footprint Resistor 0603
pins: 1, 2

## Resistor 0603 390k
designator R?, comment 390k
footprint Resistor 0603
pins: 1, 2

## Resistor 0603 470k
designator R?, comment 470k
footprint Resistor 0603
pins: 1, 2

## Resistor 0603 470R
designator R?, comment 470R
footprint Resistor 0603
pins: 1, 2

## Resistor 0603 560k
designator R?, comment 560k
footprint Resistor 0603
pins: 1, 2

## Resistor 0603 560R
designator R?, comment 560R
footprint Resistor 0603
pins: 1, 2

## Resistor 0603 680k
designator R?, comment 680k
footprint Resistor 0603
pins: 1, 2

## Test Point Through
designator TP?
footprint GOLDPIN 1x1
pins: 1

## Transistor MOSFET 400V 10A IRF740SPBF
designator T?, comment IRF740SPBF
footprint TO263
pins: 1 G, 2, 3

## Transistor N-JFET SMD SOT23 MMBF4393
designator T?, comment MMBF4393
footprint SOT23-3
pins: 1 D, 2 S, 3 G

## Transistor NPN 2N5088 TO92
designator T?, comment 2N5088
footprint TO92
pins: 1 C, 2 B, 3 E

## Transistor NPN BC547 TO92
designator T?, comment BC547
footprint TO92
pins: 1 E, 2 B, 3 C

## Transistor NPN MMBT3904 SOT23
designator T?, comment MMBT3904
footprint SOT23-3
pins: 1 B, 2 E, 3 C

## Transistor NPN MMBTA42
designator T?, comment MMBTA42
footprint SOT23-3
pins: 1 B, 2 E, 3 C

## Transistor PNP MMBTA92
designator T?, comment MMBTA92
footprint SOT23-3
pins: 1 B, 2 E, 3 C

## Tube 12AX7 / ECC83 9pin NOVAL
designator V?, comment 12AX7
footprint TUbe 9pin NOVAL
part A pins: 1 PLATE2, 2 GRID2, 3 CATHODE2
part B pins: 6 PLATE1, 7 GRID1, 8 CATHODE1
part C pins: 4 FIL1, 5 FIL2, 9 TAP

## Tube Neon IN-3
designator V?, comment IN-3
footprint IN-3
pins: 1, 2

## Tube Nixie IN-14
designator V?, comment IN-14
footprint IN-14
pins: 1 A, 2 PL, 3 1, 4 2, 5 3, 6 4, 7 5, 8 6, 9 7, 10 8, 11 9, 12 0, 13 PR